# Altium integrated library Linear Technology PMIC-Switching Reg LTC1174-LTC3901.IntLib: 2647 symbols (part 1 of 310)
Pins are listed as number, name and electrical type; pins without a type are passive.

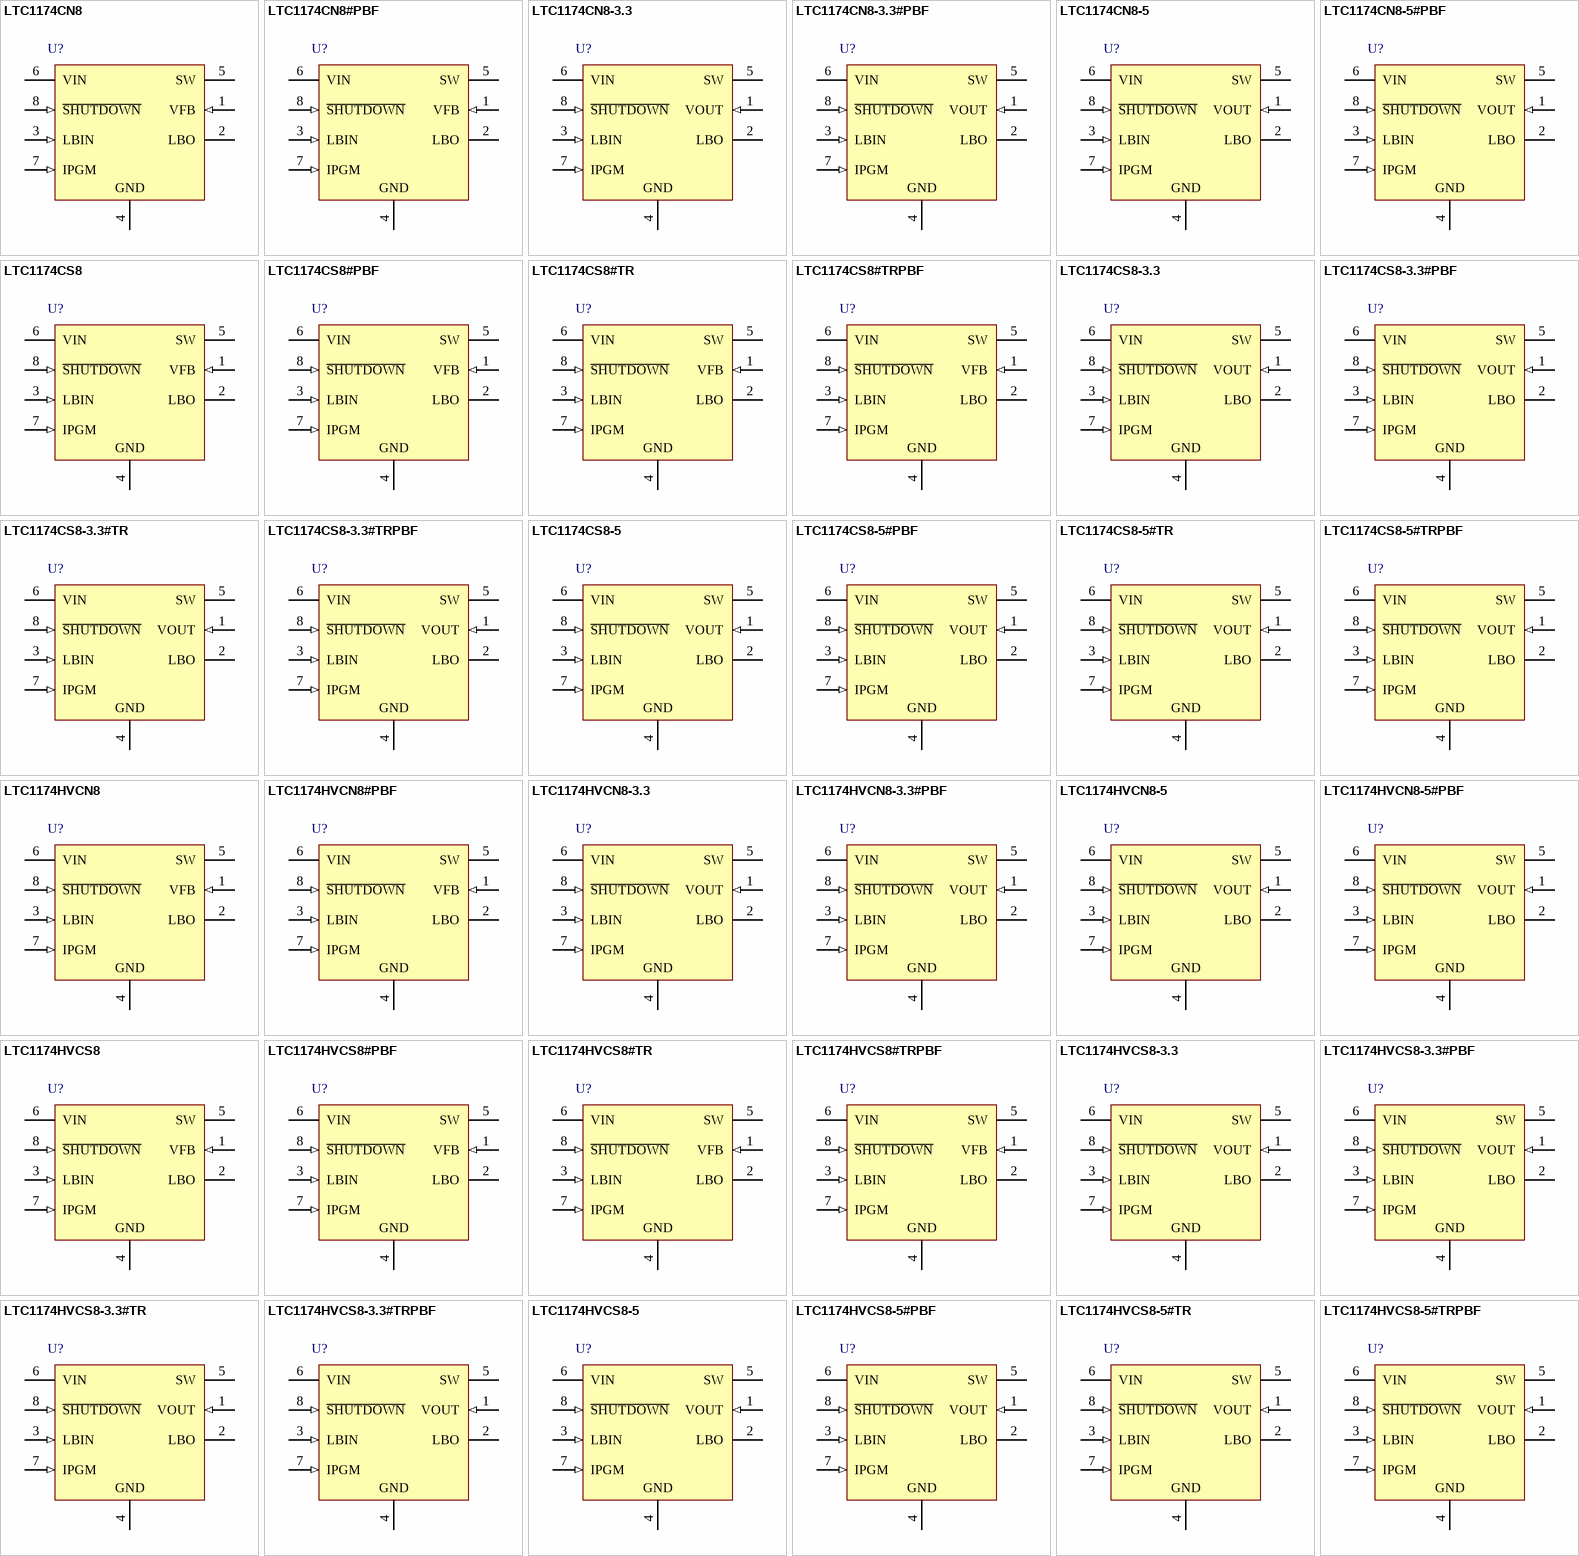
[diagram p0: symbols LTC1174CN8 to LTC1174HVCS8-5#TRPBF]

## LTC1174CN8
designator U?
High Efficiency Step-Down and Inverting DC/DC Converter, 8-pin DIP (N8-8), 0 to 70 degC; Manufacturer: Linear Technology; PartNumber: LTC1174CN8; Number of Outputs: 1; PackageReference: N8-8; PackageDescription: 8-Pin PDIP, Body 10.16 x 6.48 mm, Pitch 2.54 mm; Supplier 1: Digi-Key; Supplier Part Number 1: LTC1174CN8-ND; RoHS: FALSE
footprint LT-N8-8 (DIP, 8-Leads, Body 10.15x6.85mm, Pitch 2.54mm)
pins: 1 VFB (in) "For the LTC1174, this pin connects to the main voltage comparator's input.", 2 LBO (oc) "Open Drain of an N-Channel Pull-Down. This pin will sink current when Pin 3 (LBIN) goes below 1.25V. During shutdown the state of this pin is indeterminate.", 3 LBIN (in) "The ??Input of the Low-Battery Voltage Comparator. The ??input is connected to a reference voltage of 1.25V.", 4 GND (power) "Ground Pin.", 5 SW (power) "Drain of the P-Channel MOSFET Switch. Cathode of Schottky diode must be closely connected to this pin.", 6 VIN (power) "Input Supply Voltage. It must be decoupled close to ground Pin 4.", 7 IPGM (in) "Selects the Current Limit of the P-Channel Switch. With IPGM = VIN, the current trip point is 600mA and with IPGM = 0V, the current trip value is reduced to 340mA.", 8 ~{SHUTDOWN} (in) "Pulling this pin to ground keeps the internal switch off and puts the LTC1174 in micropower shutdown."

## LTC1174CN8#PBF
designator U?
High Efficiency Step-Down and Inverting DC/DC Converter, 8-pin DIP (N8-8), 0 to 70 degC, Pb-Free; Manufacturer: Linear Technology; PartNumber: LTC1174CN8#PBF; Number of Outputs: 1; PackageReference: N8-8; PackageDescription: 8-Pin PDIP, Body 10.16 x 6.48 mm, Pitch 2.54 mm; Supplier 1: Digi-Key; Supplier Part Number 1: LTC1174CN8#PBF-ND; RoHS: TRUE
footprint LT-N8-8 (DIP, 8-Leads, Body 10.15x6.85mm, Pitch 2.54mm)
pins: 1 VFB (in) "For the LTC1174, this pin connects to the main voltage comparator's input.", 2 LBO (oc) "Open Drain of an N-Channel Pull-Down. This pin will sink current when Pin 3 (LBIN) goes below 1.25V. During shutdown the state of this pin is indeterminate.", 3 LBIN (in) "The ??Input of the Low-Battery Voltage Comparator. The ??input is connected to a reference voltage of 1.25V.", 4 GND (power) "Ground Pin.", 5 SW (power) "Drain of the P-Channel MOSFET Switch. Cathode of Schottky diode must be closely connected to this pin.", 6 VIN (power) "Input Supply Voltage. It must be decoupled close to ground Pin 4.", 7 IPGM (in) "Selects the Current Limit of the P-Channel Switch. With IPGM = VIN, the current trip point is 600mA and with IPGM = 0V, the current trip value is reduced to 340mA.", 8 ~{SHUTDOWN} (in) "Pulling this pin to ground keeps the internal switch off and puts the LTC1174 in micropower shutdown."

## LTC1174CN8-3.3
designator U?
High Efficiency Step-Down and Inverting DC/DC Converter, 8-pin DIP (N8-8), 0 to 70 degC; Manufacturer: Linear Technology; PartNumber: LTC1174CN8-3.3; Number of Outputs: 1; PackageReference: N8-8; PackageDescription: 8-Pin PDIP, Body 10.16 x 6.48 mm, Pitch 2.54 mm; Supplier 1: Digi-Key; Supplier Part Number 1: LTC1174CN8-3.3-ND; RoHS: FALSE
footprint LT-N8-8 (DIP, 8-Leads, Body 10.15x6.85mm, Pitch 2.54mm)
pins: 1 VOUT (in) "For the LTC1174, this pin connects to the main voltage comparator's input. On the LTC1174-3.3 and LTC1174-5 this pin goes to an internal resistive divider which sets the output voltage.", 2 LBO (oc) "Open Drain of an N-Channel Pull-Down. This pin will sink current when Pin 3 (LBIN) goes below 1.25V. During shutdown the state of this pin is indeterminate.", 3 LBIN (in) "The ??Input of the Low-Battery Voltage Comparator. The ??input is connected to a reference voltage of 1.25V.", 4 GND (power) "Ground Pin.", 5 SW (power) "Drain of the P-Channel MOSFET Switch. Cathode of Schottky diode must be closely connected to this pin", 6 VIN (power) "Input Supply Voltage. It must be decoupled close to ground Pin 4.", 7 IPGM (in) "Selects the Current Limit of the P-Channel Switch. With IPGM = VIN, the current trip point is 600mA and with IPGM = 0V, the current trip value is reduced to 340mA.", 8 ~{SHUTDOWN} (in) "Pulling this pin to ground keeps the internal switch off and puts the LTC1174 in micropower shutdown."

## LTC1174CN8-3.3#PBF
designator U?
High Efficiency Step-Down and Inverting DC/DC Converter, 8-pin DIP (N8-8), 0 to 70 degC, Pb-Free; Manufacturer: Linear Technology; PartNumber: LTC1174CN8-3.3#PBF; Number of Outputs: 1; PackageReference: N8-8; PackageDescription: 8-Pin PDIP, Body 10.16 x 6.48 mm, Pitch 2.54 mm; Supplier 1: Digi-Key; Supplier Part Number 1: LTC1174CN8-3.3#PBF-ND; RoHS: TRUE
footprint LT-N8-8 (DIP, 8-Leads, Body 10.15x6.85mm, Pitch 2.54mm)
pins: 1 VOUT (in) "For the LTC1174, this pin connects to the main voltage comparator's input. On the LTC1174-3.3 and LTC1174-5 this pin goes to an internal resistive divider which sets the output voltage.", 2 LBO (oc) "Open Drain of an N-Channel Pull-Down. This pin will sink current when Pin 3 (LBIN) goes below 1.25V. During shutdown the state of this pin is indeterminate.", 3 LBIN (in) "The ??Input of the Low-Battery Voltage Comparator. The ??input is connected to a reference voltage of 1.25V.", 4 GND (power) "Ground Pin.", 5 SW (power) "Drain of the P-Channel MOSFET Switch. Cathode of Schottky diode must be closely connected to this pin", 6 VIN (power) "Input Supply Voltage. It must be decoupled close to ground Pin 4.", 7 IPGM (in) "Selects the Current Limit of the P-Channel Switch. With IPGM = VIN, the current trip point is 600mA and with IPGM = 0V, the current trip value is reduced to 340mA.", 8 ~{SHUTDOWN} (in) "Pulling this pin to ground keeps the internal switch off and puts the LTC1174 in micropower shutdown."

## LTC1174CN8-5
designator U?
High Efficiency Step-Down and Inverting DC/DC Converter, 8-pin DIP (N8-8), 0 to 70 degC; Manufacturer: Linear Technology; PartNumber: LTC1174CN8-5; Number of Outputs: 1; PackageReference: N8-8; PackageDescription: 8-Pin PDIP, Body 10.16 x 6.48 mm, Pitch 2.54 mm; Supplier 1: Digi-Key; Supplier Part Number 1: LTC1174CN8-5-ND; RoHS: FALSE
footprint LT-N8-8 (DIP, 8-Leads, Body 10.15x6.85mm, Pitch 2.54mm)
pins: 1 VOUT (in) "For the LTC1174, this pin connects to the main voltage comparator's input. On the LTC1174-3.3 and LTC1174-5 this pin goes to an internal resistive divider which sets the output voltage.", 2 LBO (oc) "Open Drain of an N-Channel Pull-Down. This pin will sink current when Pin 3 (LBIN) goes below 1.25V. During shutdown the state of this pin is indeterminate.", 3 LBIN (in) "The ??Input of the Low-Battery Voltage Comparator. The ??input is connected to a reference voltage of 1.25V.", 4 GND (power) "Ground Pin.", 5 SW (power) "Drain of the P-Channel MOSFET Switch. Cathode of Schottky diode must be closely connected to this pin", 6 VIN (power) "Input Supply Voltage. It must be decoupled close to ground Pin 4.", 7 IPGM (in) "Selects the Current Limit of the P-Channel Switch. With IPGM = VIN, the current trip point is 600mA and with IPGM = 0V, the current trip value is reduced to 340mA.", 8 ~{SHUTDOWN} (in) "Pulling this pin to ground keeps the internal switch off and puts the LTC1174 in micropower shutdown."

## LTC1174CN8-5#PBF
designator U?
High Efficiency Step-Down and Inverting DC/DC Converter, 8-pin DIP (N8-8), 0 to 70 degC, Pb-Free; Manufacturer: Linear Technology; PartNumber: LTC1174CN8-5#PBF; Number of Outputs: 1; PackageReference: N8-8; PackageDescription: 8-Pin PDIP, Body 10.16 x 6.48 mm, Pitch 2.54 mm; Supplier 1: Digi-Key; Supplier Part Number 1: LTC1174CN8-5#PBF-ND; RoHS: TRUE
footprint LT-N8-8 (DIP, 8-Leads, Body 10.15x6.85mm, Pitch 2.54mm)
pins: 1 VOUT (in) "For the LTC1174, this pin connects to the main voltage comparator's input. On the LTC1174-3.3 and LTC1174-5 this pin goes to an internal resistive divider which sets the output voltage.", 2 LBO (oc) "Open Drain of an N-Channel Pull-Down. This pin will sink current when Pin 3 (LBIN) goes below 1.25V. During shutdown the state of this pin is indeterminate.", 3 LBIN (in) "The ??Input of the Low-Battery Voltage Comparator. The ??input is connected to a reference voltage of 1.25V.", 4 GND (power) "Ground Pin.", 5 SW (power) "Drain of the P-Channel MOSFET Switch. Cathode of Schottky diode must be closely connected to this pin", 6 VIN (power) "Input Supply Voltage. It must be decoupled close to ground Pin 4.", 7 IPGM (in) "Selects the Current Limit of the P-Channel Switch. With IPGM = VIN, the current trip point is 600mA and with IPGM = 0V, the current trip value is reduced to 340mA.", 8 ~{SHUTDOWN} (in) "Pulling this pin to ground keeps the internal switch off and puts the LTC1174 in micropower shutdown."

## LTC1174CS8
designator U?
High Efficiency Step-Down and Inverting DC/DC Converter, 8-pin SOIC (S8-8), 0 to 70 degC; Manufacturer: Linear Technology; PartNumber: LTC1174CS8; Number of Outputs: 1; PackageReference: S8-8; PackageDescription: 8-Pin Plastic Small Outline (Narrow .150 Inch), Body 4.9 x 3.9 mm, Pitch 1.27 mm; Supplier 1: Digi-Key; Supplier Part Number 1: LTC1174CS8-ND; RoHS: FALSE
footprint LT-S8-8_N (SOIC, 8-Leads, Body 5x4mm, Pitch 1.27mm, IPC Medium Density)
footprint LT-S8-8_L (SOIC, 8-Leads, Body 5x4mm, Pitch 1.27mm, IPC High Density)
footprint LT-S8-8_M (SOIC, 8-Leads, Body 5x4mm, Pitch 1.27mm, IPC Low Density)
pins: 1 VFB (in) "For the LTC1174, this pin connects to the main voltage comparator's input.", 2 LBO (oc) "Open Drain of an N-Channel Pull-Down. This pin will sink current when Pin 3 (LBIN) goes below 1.25V. During shutdown the state of this pin is indeterminate.", 3 LBIN (in) "The ??Input of the Low-Battery Voltage Comparator. The ??input is connected to a reference voltage of 1.25V.", 4 GND (power) "Ground Pin.", 5 SW (power) "Drain of the P-Channel MOSFET Switch. Cathode of Schottky diode must be closely connected to this pin.", 6 VIN (power) "Input Supply Voltage. It must be decoupled close to ground Pin 4.", 7 IPGM (in) "Selects the Current Limit of the P-Channel Switch. With IPGM = VIN, the current trip point is 600mA and with IPGM = 0V, the current trip value is reduced to 340mA.", 8 ~{SHUTDOWN} (in) "Pulling this pin to ground keeps the internal switch off and puts the LTC1174 in micropower shutdown."

## LTC1174CS8#PBF
designator U?
High Efficiency Step-Down and Inverting DC/DC Converter, 8-pin SOIC (S8-8), 0 to 70 degC, Pb-Free; Manufacturer: Linear Technology; PartNumber: LTC1174CS8#PBF; Number of Outputs: 1; PackageReference: S8-8; PackageDescription: 8-Pin Plastic Small Outline (Narrow .150 Inch), Body 4.9 x 3.9 mm, Pitch 1.27 mm; Supplier 1: Digi-Key; Supplier Part Number 1: LTC1174CS8#PBF-ND; RoHS: TRUE
footprint LT-S8-8_N (SOIC, 8-Leads, Body 5x4mm, Pitch 1.27mm, IPC Medium Density)
footprint LT-S8-8_L (SOIC, 8-Leads, Body 5x4mm, Pitch 1.27mm, IPC High Density)
footprint LT-S8-8_M (SOIC, 8-Leads, Body 5x4mm, Pitch 1.27mm, IPC Low Density)
pins: 1 VFB (in) "For the LTC1174, this pin connects to the main voltage comparator's input.", 2 LBO (oc) "Open Drain of an N-Channel Pull-Down. This pin will sink current when Pin 3 (LBIN) goes below 1.25V. During shutdown the state of this pin is indeterminate.", 3 LBIN (in) "The ??Input of the Low-Battery Voltage Comparator. The ??input is connected to a reference voltage of 1.25V.", 4 GND (power) "Ground Pin.", 5 SW (power) "Drain of the P-Channel MOSFET Switch. Cathode of Schottky diode must be closely connected to this pin.", 6 VIN (power) "Input Supply Voltage. It must be decoupled close to ground Pin 4.", 7 IPGM (in) "Selects the Current Limit of the P-Channel Switch. With IPGM = VIN, the current trip point is 600mA and with IPGM = 0V, the current trip value is reduced to 340mA.", 8 ~{SHUTDOWN} (in) "Pulling this pin to ground keeps the internal switch off and puts the LTC1174 in micropower shutdown."

## LTC1174CS8#TR
designator U?
High Efficiency Step-Down and Inverting DC/DC Converter, 8-pin SOIC (S8-8), 0 to 70 degC, Tape and Reel; Manufacturer: Linear Technology; PartNumber: LTC1174CS8#TR; Number of Outputs: 1; PackageReference: S8-8; PackageDescription: 8-Pin Plastic Small Outline (Narrow .150 Inch), Body 4.9 x 3.9 mm, Pitch 1.27 mm; Supplier 1: Digi-Key; Supplier Part Number 1: LTC1174CS8#TR-ND; RoHS: FALSE
footprint LT-S8-8_N (SOIC, 8-Leads, Body 5x4mm, Pitch 1.27mm, IPC Medium Density)
footprint LT-S8-8_L (SOIC, 8-Leads, Body 5x4mm, Pitch 1.27mm, IPC High Density)
footprint LT-S8-8_M (SOIC, 8-Leads, Body 5x4mm, Pitch 1.27mm, IPC Low Density)
pins: 1 VFB (in) "For the LTC1174, this pin connects to the main voltage comparator's input.", 2 LBO (oc) "Open Drain of an N-Channel Pull-Down. This pin will sink current when Pin 3 (LBIN) goes below 1.25V. During shutdown the state of this pin is indeterminate.", 3 LBIN (in) "The ??Input of the Low-Battery Voltage Comparator. The ??input is connected to a reference voltage of 1.25V.", 4 GND (power) "Ground Pin.", 5 SW (power) "Drain of the P-Channel MOSFET Switch. Cathode of Schottky diode must be closely connected to this pin.", 6 VIN (power) "Input Supply Voltage. It must be decoupled close to ground Pin 4.", 7 IPGM (in) "Selects the Current Limit of the P-Channel Switch. With IPGM = VIN, the current trip point is 600mA and with IPGM = 0V, the current trip value is reduced to 340mA.", 8 ~{SHUTDOWN} (in) "Pulling this pin to ground keeps the internal switch off and puts the LTC1174 in micropower shutdown."

## LTC1174CS8#TRPBF
designator U?
High Efficiency Step-Down and Inverting DC/DC Converter, 8-pin SOIC (S8-8), 0 to 70 degC, Pb-Free, Tape and Reel; Manufacturer: Linear Technology; PartNumber: LTC1174CS8#TRPBF; Number of Outputs: 1; PackageReference: S8-8; PackageDescription: 8-Pin Plastic Small Outline (Narrow .150 Inch), Body 4.9 x 3.9 mm, Pitch 1.27 mm; Supplier 1: Digi-Key; Supplier Part Number 1: LTC1174CS8#TRPBF-ND; RoHS: TRUE
footprint LT-S8-8_N (SOIC, 8-Leads, Body 5x4mm, Pitch 1.27mm, IPC Medium Density)
footprint LT-S8-8_L (SOIC, 8-Leads, Body 5x4mm, Pitch 1.27mm, IPC High Density)
footprint LT-S8-8_M (SOIC, 8-Leads, Body 5x4mm, Pitch 1.27mm, IPC Low Density)
pins: 1 VFB (in) "For the LTC1174, this pin connects to the main voltage comparator's input.", 2 LBO (oc) "Open Drain of an N-Channel Pull-Down. This pin will sink current when Pin 3 (LBIN) goes below 1.25V. During shutdown the state of this pin is indeterminate.", 3 LBIN (in) "The ??Input of the Low-Battery Voltage Comparator. The ??input is connected to a reference voltage of 1.25V.", 4 GND (power) "Ground Pin.", 5 SW (power) "Drain of the P-Channel MOSFET Switch. Cathode of Schottky diode must be closely connected to this pin.", 6 VIN (power) "Input Supply Voltage. It must be decoupled close to ground Pin 4.", 7 IPGM (in) "Selects the Current Limit of the P-Channel Switch. With IPGM = VIN, the current trip point is 600mA and with IPGM = 0V, the current trip value is reduced to 340mA.", 8 ~{SHUTDOWN} (in) "Pulling this pin to ground keeps the internal switch off and puts the LTC1174 in micropower shutdown."

## LTC1174CS8-3.3
designator U?
High Efficiency Step-Down and Inverting DC/DC Converter, 8-pin SOIC (S8-8), 0 to 70 degC; Manufacturer: Linear Technology; PartNumber: LTC1174CS8-3.3; Number of Outputs: 1; PackageReference: S8-8; PackageDescription: 8-Pin Plastic Small Outline (Narrow .150 Inch), Body 4.9 x 3.9 mm, Pitch 1.27 mm; Supplier 1: Digi-Key; Supplier Part Number 1: LTC1174CS8-3.3-ND; RoHS: FALSE
footprint LT-S8-8_N (SOIC, 8-Leads, Body 5x4mm, Pitch 1.27mm, IPC Medium Density)
footprint LT-S8-8_L (SOIC, 8-Leads, Body 5x4mm, Pitch 1.27mm, IPC High Density)
footprint LT-S8-8_M (SOIC, 8-Leads, Body 5x4mm, Pitch 1.27mm, IPC Low Density)
pins: 1 VOUT (in) "For the LTC1174, this pin connects to the main voltage comparator's input. On the LTC1174-3.3 and LTC1174-5 this pin goes to an internal resistive divider which sets the output voltage.", 2 LBO (oc) "Open Drain of an N-Channel Pull-Down. This pin will sink current when Pin 3 (LBIN) goes below 1.25V. During shutdown the state of this pin is indeterminate.", 3 LBIN (in) "The ??Input of the Low-Battery Voltage Comparator. The ??input is connected to a reference voltage of 1.25V.", 4 GND (power) "Ground Pin.", 5 SW (power) "Drain of the P-Channel MOSFET Switch. Cathode of Schottky diode must be closely connected to this pin", 6 VIN (power) "Input Supply Voltage. It must be decoupled close to ground Pin 4.", 7 IPGM (in) "Selects the Current Limit of the P-Channel Switch. With IPGM = VIN, the current trip point is 600mA and with IPGM = 0V, the current trip value is reduced to 340mA.", 8 ~{SHUTDOWN} (in) "Pulling this pin to ground keeps the internal switch off and puts the LTC1174 in micropower shutdown."

## LTC1174CS8-3.3#PBF
designator U?
High Efficiency Step-Down and Inverting DC/DC Converter, 8-pin SOIC (S8-8), 0 to 70 degC, Pb-Free; Manufacturer: Linear Technology; PartNumber: LTC1174CS8-3.3#PBF; Number of Outputs: 1; PackageReference: S8-8; PackageDescription: 8-Pin Plastic Small Outline (Narrow .150 Inch), Body 4.9 x 3.9 mm, Pitch 1.27 mm; Supplier 1: Digi-Key; Supplier Part Number 1: LTC1174CS8-3.3#PBF-ND; RoHS: TRUE
footprint LT-S8-8_N (SOIC, 8-Leads, Body 5x4mm, Pitch 1.27mm, IPC Medium Density)
footprint LT-S8-8_L (SOIC, 8-Leads, Body 5x4mm, Pitch 1.27mm, IPC High Density)
footprint LT-S8-8_M (SOIC, 8-Leads, Body 5x4mm, Pitch 1.27mm, IPC Low Density)
pins: 1 VOUT (in) "For the LTC1174, this pin connects to the main voltage comparator's input. On the LTC1174-3.3 and LTC1174-5 this pin goes to an internal resistive divider which sets the output voltage.", 2 LBO (oc) "Open Drain of an N-Channel Pull-Down. This pin will sink current when Pin 3 (LBIN) goes below 1.25V. During shutdown the state of this pin is indeterminate.", 3 LBIN (in) "The ??Input of the Low-Battery Voltage Comparator. The ??input is connected to a reference voltage of 1.25V.", 4 GND (power) "Ground Pin.", 5 SW (power) "Drain of the P-Channel MOSFET Switch. Cathode of Schottky diode must be closely connected to this pin", 6 VIN (power) "Input Supply Voltage. It must be decoupled close to ground Pin 4.", 7 IPGM (in) "Selects the Current Limit of the P-Channel Switch. With IPGM = VIN, the current trip point is 600mA and with IPGM = 0V, the current trip value is reduced to 340mA.", 8 ~{SHUTDOWN} (in) "Pulling this pin to ground keeps the internal switch off and puts the LTC1174 in micropower shutdown."

## LTC1174CS8-3.3#TR
designator U?
High Efficiency Step-Down and Inverting DC/DC Converter, 8-pin SOIC (S8-8), 0 to 70 degC, Tape and Reel; Manufacturer: Linear Technology; PartNumber: LTC1174CS8-3.3#TR; Number of Outputs: 1; PackageReference: S8-8; PackageDescription: 8-Pin Plastic Small Outline (Narrow .150 Inch), Body 4.9 x 3.9 mm, Pitch 1.27 mm; Supplier 1: Digi-Key; Supplier Part Number 1: LTC1174CS8-3.3#TR-ND; RoHS: FALSE
footprint LT-S8-8_N (SOIC, 8-Leads, Body 5x4mm, Pitch 1.27mm, IPC Medium Density)
footprint LT-S8-8_L (SOIC, 8-Leads, Body 5x4mm, Pitch 1.27mm, IPC High Density)
footprint LT-S8-8_M (SOIC, 8-Leads, Body 5x4mm, Pitch 1.27mm, IPC Low Density)
pins: 1 VOUT (in) "For the LTC1174, this pin connects to the main voltage comparator's input. On the LTC1174-3.3 and LTC1174-5 this pin goes to an internal resistive divider which sets the output voltage.", 2 LBO (oc) "Open Drain of an N-Channel Pull-Down. This pin will sink current when Pin 3 (LBIN) goes below 1.25V. During shutdown the state of this pin is indeterminate.", 3 LBIN (in) "The ??Input of the Low-Battery Voltage Comparator. The ??input is connected to a reference voltage of 1.25V.", 4 GND (power) "Ground Pin.", 5 SW (power) "Drain of the P-Channel MOSFET Switch. Cathode of Schottky diode must be closely connected to this pin", 6 VIN (power) "Input Supply Voltage. It must be decoupled close to ground Pin 4.", 7 IPGM (in) "Selects the Current Limit of the P-Channel Switch. With IPGM = VIN, the current trip point is 600mA and with IPGM = 0V, the current trip value is reduced to 340mA.", 8 ~{SHUTDOWN} (in) "Pulling this pin to ground keeps the internal switch off and puts the LTC1174 in micropower shutdown."

## LTC1174CS8-3.3#TRPBF
designator U?
High Efficiency Step-Down and Inverting DC/DC Converter, 8-pin SOIC (S8-8), 0 to 70 degC, Pb-Free, Tape and Reel; Manufacturer: Linear Technology; PartNumber: LTC1174CS8-3.3#TRPBF; Number of Outputs: 1; PackageReference: S8-8; PackageDescription: 8-Pin Plastic Small Outline (Narrow .150 Inch), Body 4.9 x 3.9 mm, Pitch 1.27 mm; Supplier 1: Digi-Key; Supplier Part Number 1: LTC1174CS8-3.3#TRPBF-ND; RoHS: TRUE
footprint LT-S8-8_N (SOIC, 8-Leads, Body 5x4mm, Pitch 1.27mm, IPC Medium Density)
footprint LT-S8-8_L (SOIC, 8-Leads, Body 5x4mm, Pitch 1.27mm, IPC High Density)
footprint LT-S8-8_M (SOIC, 8-Leads, Body 5x4mm, Pitch 1.27mm, IPC Low Density)
pins: 1 VOUT (in) "For the LTC1174, this pin connects to the main voltage comparator's input. On the LTC1174-3.3 and LTC1174-5 this pin goes to an internal resistive divider which sets the output voltage.", 2 LBO (oc) "Open Drain of an N-Channel Pull-Down. This pin will sink current when Pin 3 (LBIN) goes below 1.25V. During shutdown the state of this pin is indeterminate.", 3 LBIN (in) "The ??Input of the Low-Battery Voltage Comparator. The ??input is connected to a reference voltage of 1.25V.", 4 GND (power) "Ground Pin.", 5 SW (power) "Drain of the P-Channel MOSFET Switch. Cathode of Schottky diode must be closely connected to this pin", 6 VIN (power) "Input Supply Voltage. It must be decoupled close to ground Pin 4.", 7 IPGM (in) "Selects the Current Limit of the P-Channel Switch. With IPGM = VIN, the current trip point is 600mA and with IPGM = 0V, the current trip value is reduced to 340mA.", 8 ~{SHUTDOWN} (in) "Pulling this pin to ground keeps the internal switch off and puts the LTC1174 in micropower shutdown."

## LTC1174CS8-5
designator U?
High Efficiency Step-Down and Inverting DC/DC Converter, 8-pin SOIC (S8-8), 0 to 70 degC; Manufacturer: Linear Technology; PartNumber: LTC1174CS8-5; Number of Outputs: 1; PackageReference: S8-8; PackageDescription: 8-Pin Plastic Small Outline (Narrow .150 Inch), Body 4.9 x 3.9 mm, Pitch 1.27 mm; Supplier 1: Digi-Key; Supplier Part Number 1: LTC1174CS8-5-ND; RoHS: FALSE
footprint LT-S8-8_N (SOIC, 8-Leads, Body 5x4mm, Pitch 1.27mm, IPC Medium Density)
footprint LT-S8-8_L (SOIC, 8-Leads, Body 5x4mm, Pitch 1.27mm, IPC High Density)
footprint LT-S8-8_M (SOIC, 8-Leads, Body 5x4mm, Pitch 1.27mm, IPC Low Density)
pins: 1 VOUT (in) "For the LTC1174, this pin connects to the main voltage comparator's input. On the LTC1174-3.3 and LTC1174-5 this pin goes to an internal resistive divider which sets the output voltage.", 2 LBO (oc) "Open Drain of an N-Channel Pull-Down. This pin will sink current when Pin 3 (LBIN) goes below 1.25V. During shutdown the state of this pin is indeterminate.", 3 LBIN (in) "The ??Input of the Low-Battery Voltage Comparator. The ??input is connected to a reference voltage of 1.25V.", 4 GND (power) "Ground Pin.", 5 SW (power) "Drain of the P-Channel MOSFET Switch. Cathode of Schottky diode must be closely connected to this pin", 6 VIN (power) "Input Supply Voltage. It must be decoupled close to ground Pin 4.", 7 IPGM (in) "Selects the Current Limit of the P-Channel Switch. With IPGM = VIN, the current trip point is 600mA and with IPGM = 0V, the current trip value is reduced to 340mA.", 8 ~{SHUTDOWN} (in) "Pulling this pin to ground keeps the internal switch off and puts the LTC1174 in micropower shutdown."

## LTC1174CS8-5#PBF
designator U?
High Efficiency Step-Down and Inverting DC/DC Converter, 8-pin SOIC (S8-8), 0 to 70 degC, Pb-Free; Manufacturer: Linear Technology; PartNumber: LTC1174CS8-5#PBF; Number of Outputs: 1; PackageReference: S8-8; PackageDescription: 8-Pin Plastic Small Outline (Narrow .150 Inch), Body 4.9 x 3.9 mm, Pitch 1.27 mm; Supplier 1: Digi-Key; Supplier Part Number 1: LTC1174CS8-5#PBF-ND; RoHS: TRUE
footprint LT-S8-8_N (SOIC, 8-Leads, Body 5x4mm, Pitch 1.27mm, IPC Medium Density)
footprint LT-S8-8_L (SOIC, 8-Leads, Body 5x4mm, Pitch 1.27mm, IPC High Density)
footprint LT-S8-8_M (SOIC, 8-Leads, Body 5x4mm, Pitch 1.27mm, IPC Low Density)
pins: 1 VOUT (in) "For the LTC1174, this pin connects to the main voltage comparator's input. On the LTC1174-3.3 and LTC1174-5 this pin goes to an internal resistive divider which sets the output voltage.", 2 LBO (oc) "Open Drain of an N-Channel Pull-Down. This pin will sink current when Pin 3 (LBIN) goes below 1.25V. During shutdown the state of this pin is indeterminate.", 3 LBIN (in) "The ??Input of the Low-Battery Voltage Comparator. The ??input is connected to a reference voltage of 1.25V.", 4 GND (power) "Ground Pin.", 5 SW (power) "Drain of the P-Channel MOSFET Switch. Cathode of Schottky diode must be closely connected to this pin", 6 VIN (power) "Input Supply Voltage. It must be decoupled close to ground Pin 4.", 7 IPGM (in) "Selects the Current Limit of the P-Channel Switch. With IPGM = VIN, the current trip point is 600mA and with IPGM = 0V, the current trip value is reduced to 340mA.", 8 ~{SHUTDOWN} (in) "Pulling this pin to ground keeps the internal switch off and puts the LTC1174 in micropower shutdown."

## LTC1174CS8-5#TR
designator U?
High Efficiency Step-Down and Inverting DC/DC Converter, 8-pin SOIC (S8-8), 0 to 70 degC, Tape and Reel; Manufacturer: Linear Technology; PartNumber: LTC1174CS8-5#TR; Number of Outputs: 1; PackageReference: S8-8; PackageDescription: 8-Pin Plastic Small Outline (Narrow .150 Inch), Body 4.9 x 3.9 mm, Pitch 1.27 mm; Supplier 1: Digi-Key; Supplier Part Number 1: LTC1174CS8-5#TR-ND; RoHS: FALSE
footprint LT-S8-8_N (SOIC, 8-Leads, Body 5x4mm, Pitch 1.27mm, IPC Medium Density)
footprint LT-S8-8_L (SOIC, 8-Leads, Body 5x4mm, Pitch 1.27mm, IPC High Density)
footprint LT-S8-8_M (SOIC, 8-Leads, Body 5x4mm, Pitch 1.27mm, IPC Low Density)
pins: 1 VOUT (in) "For the LTC1174, this pin connects to the main voltage comparator's input. On the LTC1174-3.3 and LTC1174-5 this pin goes to an internal resistive divider which sets the output voltage.", 2 LBO (oc) "Open Drain of an N-Channel Pull-Down. This pin will sink current when Pin 3 (LBIN) goes below 1.25V. During shutdown the state of this pin is indeterminate.", 3 LBIN (in) "The ??Input of the Low-Battery Voltage Comparator. The ??input is connected to a reference voltage of 1.25V.", 4 GND (power) "Ground Pin.", 5 SW (power) "Drain of the P-Channel MOSFET Switch. Cathode of Schottky diode must be closely connected to this pin", 6 VIN (power) "Input Supply Voltage. It must be decoupled close to ground Pin 4.", 7 IPGM (in) "Selects the Current Limit of the P-Channel Switch. With IPGM = VIN, the current trip point is 600mA and with IPGM = 0V, the current trip value is reduced to 340mA.", 8 ~{SHUTDOWN} (in) "Pulling this pin to ground keeps the internal switch off and puts the LTC1174 in micropower shutdown."

## LTC1174CS8-5#TRPBF
designator U?
High Efficiency Step-Down and Inverting DC/DC Converter, 8-pin SOIC (S8-8), 0 to 70 degC, Pb-Free, Tape and Reel; Manufacturer: Linear Technology; PartNumber: LTC1174CS8-5#TRPBF; Number of Outputs: 1; PackageReference: S8-8; PackageDescription: 8-Pin Plastic Small Outline (Narrow .150 Inch), Body 4.9 x 3.9 mm, Pitch 1.27 mm; Supplier 1: Digi-Key; Supplier Part Number 1: LTC1174CS8-5#TRPBF-ND; RoHS: TRUE
footprint LT-S8-8_N (SOIC, 8-Leads, Body 5x4mm, Pitch 1.27mm, IPC Medium Density)
footprint LT-S8-8_L (SOIC, 8-Leads, Body 5x4mm, Pitch 1.27mm, IPC High Density)
footprint LT-S8-8_M (SOIC, 8-Leads, Body 5x4mm, Pitch 1.27mm, IPC Low Density)
pins: 1 VOUT (in) "For the LTC1174, this pin connects to the main voltage comparator's input. On the LTC1174-3.3 and LTC1174-5 this pin goes to an internal resistive divider which sets the output voltage.", 2 LBO (oc) "Open Drain of an N-Channel Pull-Down. This pin will sink current when Pin 3 (LBIN) goes below 1.25V. During shutdown the state of this pin is indeterminate.", 3 LBIN (in) "The ??Input of the Low-Battery Voltage Comparator. The ??input is connected to a reference voltage of 1.25V.", 4 GND (power) "Ground Pin.", 5 SW (power) "Drain of the P-Channel MOSFET Switch. Cathode of Schottky diode must be closely connected to this pin", 6 VIN (power) "Input Supply Voltage. It must be decoupled close to ground Pin 4.", 7 IPGM (in) "Selects the Current Limit of the P-Channel Switch. With IPGM = VIN, the current trip point is 600mA and with IPGM = 0V, the current trip value is reduced to 340mA.", 8 ~{SHUTDOWN} (in) "Pulling this pin to ground keeps the internal switch off and puts the LTC1174 in micropower shutdown."

## LTC1174HVCN8
designator U?
High Efficiency Step-Down and Inverting DC/DC Converter, 8-pin DIP (N8-8), 0 to 70 degC; Manufacturer: Linear Technology; PartNumber: LTC1174HVCN8; Number of Outputs: 1; PackageReference: N8-8; PackageDescription: 8-Pin PDIP, Body 10.16 x 6.48 mm, Pitch 2.54 mm; Supplier 1: Digi-Key; Supplier Part Number 1: LTC1174HVCN8-ND; RoHS: FALSE
footprint LT-N8-8 (DIP, 8-Leads, Body 10.15x6.85mm, Pitch 2.54mm)
pins: 1 VFB (in) "For the LTC1174, this pin connects to the main voltage comparator's input.", 2 LBO (oc) "Open Drain of an N-Channel Pull-Down. This pin will sink current when Pin 3 (LBIN) goes below 1.25V. During shutdown the state of this pin is indeterminate.", 3 LBIN (in) "The ??Input of the Low-Battery Voltage Comparator. The ??input is connected to a reference voltage of 1.25V.", 4 GND (power) "Ground Pin.", 5 SW (power) "Drain of the P-Channel MOSFET Switch. Cathode of Schottky diode must be closely connected to this pin.", 6 VIN (power) "Input Supply Voltage. It must be decoupled close to ground Pin 4.", 7 IPGM (in) "Selects the Current Limit of the P-Channel Switch. With IPGM = VIN, the current trip point is 600mA and with IPGM = 0V, the current trip value is reduced to 340mA.", 8 ~{SHUTDOWN} (in) "Pulling this pin to ground keeps the internal switch off and puts the LTC1174 in micropower shutdown."

## LTC1174HVCN8#PBF
designator U?
High Efficiency Step-Down and Inverting DC/DC Converter, 8-pin DIP (N8-8), 0 to 70 degC, Pb-Free; Manufacturer: Linear Technology; PartNumber: LTC1174HVCN8#PBF; Number of Outputs: 1; PackageReference: N8-8; PackageDescription: 8-Pin PDIP, Body 10.16 x 6.48 mm, Pitch 2.54 mm; Supplier 1: Digi-Key; Supplier Part Number 1: LTC1174HVCN8#PBF-ND; RoHS: TRUE
footprint LT-N8-8 (DIP, 8-Leads, Body 10.15x6.85mm, Pitch 2.54mm)
pins: 1 VFB (in) "For the LTC1174, this pin connects to the main voltage comparator's input.", 2 LBO (oc) "Open Drain of an N-Channel Pull-Down. This pin will sink current when Pin 3 (LBIN) goes below 1.25V. During shutdown the state of this pin is indeterminate.", 3 LBIN (in) "The ??Input of the Low-Battery Voltage Comparator. The ??input is connected to a reference voltage of 1.25V.", 4 GND (power) "Ground Pin.", 5 SW (power) "Drain of the P-Channel MOSFET Switch. Cathode of Schottky diode must be closely connected to this pin.", 6 VIN (power) "Input Supply Voltage. It must be decoupled close to ground Pin 4.", 7 IPGM (in) "Selects the Current Limit of the P-Channel Switch. With IPGM = VIN, the current trip point is 600mA and with IPGM = 0V, the current trip value is reduced to 340mA.", 8 ~{SHUTDOWN} (in) "Pulling this pin to ground keeps the internal switch off and puts the LTC1174 in micropower shutdown."

## LTC1174HVCN8-3.3
designator U?
High Efficiency Step-Down and Inverting DC/DC Converter, 8-pin DIP (N8-8), 0 to 70 degC; Manufacturer: Linear Technology; PartNumber: LTC1174HVCN8-3.3; Number of Outputs: 1; PackageReference: N8-8; PackageDescription: 8-Pin PDIP, Body 10.16 x 6.48 mm, Pitch 2.54 mm; Supplier 1: Digi-Key; Supplier Part Number 1: LTC1174HVCN8-3.3-ND; RoHS: FALSE
footprint LT-N8-8 (DIP, 8-Leads, Body 10.15x6.85mm, Pitch 2.54mm)
pins: 1 VOUT (in) "On the LTC1174-3.3 and LTC1174-5 this pin goes to an internal resistive divider which sets the output voltage.", 2 LBO (oc) "Open Drain of an N-Channel Pull-Down. This pin will sink current when Pin 3 (LBIN) goes below 1.25V. During shutdown the state of this pin is indeterminate.", 3 LBIN (in) "The ??Input of the Low-Battery Voltage Comparator. The ??input is connected to a reference voltage of 1.25V.", 4 GND (power) "Ground Pin.", 5 SW (power) "Drain of the P-Channel MOSFET Switch. Cathode of Schottky diode must be closely connected to this pin.", 6 VIN (power) "Input Supply Voltage. It must be decoupled close to ground Pin 4.", 7 IPGM (in) "Selects the Current Limit of the P-Channel Switch. With IPGM = VIN, the current trip point is 600mA and with IPGM = 0V, the current trip value is reduced to 340mA.", 8 ~{SHUTDOWN} (in) "Pulling this pin to ground keeps the internal switch off and puts the LTC1174 in micropower shutdown."

## LTC1174HVCN8-3.3#PBF
designator U?
High Efficiency Step-Down and Inverting DC/DC Converter, 8-pin DIP (N8-8), 0 to 70 degC, Pb-Free; Manufacturer: Linear Technology; PartNumber: LTC1174HVCN8-3.3#PBF; Number of Outputs: 1; PackageReference: N8-8; PackageDescription: 8-Pin PDIP, Body 10.16 x 6.48 mm, Pitch 2.54 mm; Supplier 1: Digi-Key; Supplier Part Number 1: LTC1174HVCN8-3.3#PBF-ND; RoHS: TRUE
footprint LT-N8-8 (DIP, 8-Leads, Body 10.15x6.85mm, Pitch 2.54mm)
pins: 1 VOUT (in) "On the LTC1174-3.3 and LTC1174-5 this pin goes to an internal resistive divider which sets the output voltage.", 2 LBO (oc) "Open Drain of an N-Channel Pull-Down. This pin will sink current when Pin 3 (LBIN) goes below 1.25V. During shutdown the state of this pin is indeterminate.", 3 LBIN (in) "The ??Input of the Low-Battery Voltage Comparator. The ??input is connected to a reference voltage of 1.25V.", 4 GND (power) "Ground Pin.", 5 SW (power) "Drain of the P-Channel MOSFET Switch. Cathode of Schottky diode must be closely connected to this pin.", 6 VIN (power) "Input Supply Voltage. It must be decoupled close to ground Pin 4.", 7 IPGM (in) "Selects the Current Limit of the P-Channel Switch. With IPGM = VIN, the current trip point is 600mA and with IPGM = 0V, the current trip value is reduced to 340mA.", 8 ~{SHUTDOWN} (in) "Pulling this pin to ground keeps the internal switch off and puts the LTC1174 in micropower shutdown."

## LTC1174HVCN8-5
designator U?
High Efficiency Step-Down and Inverting DC/DC Converter, 8-pin DIP (N8-8), 0 to 70 degC; Manufacturer: Linear Technology; PartNumber: LTC1174HVCN8-5; Number of Outputs: 1; PackageReference: N8-8; PackageDescription: 8-Pin PDIP, Body 10.16 x 6.48 mm, Pitch 2.54 mm; Supplier 1: Digi-Key; Supplier Part Number 1: LTC1174HVCN8-5-ND; RoHS: FALSE
footprint LT-N8-8 (DIP, 8-Leads, Body 10.15x6.85mm, Pitch 2.54mm)
pins: 1 VOUT (in) "On the LTC1174-3.3 and LTC1174-5 this pin goes to an internal resistive divider which sets the output voltage.", 2 LBO (oc) "Open Drain of an N-Channel Pull-Down. This pin will sink current when Pin 3 (LBIN) goes below 1.25V. During shutdown the state of this pin is indeterminate.", 3 LBIN (in) "The ??Input of the Low-Battery Voltage Comparator. The ??input is connected to a reference voltage of 1.25V.", 4 GND (power) "Ground Pin.", 5 SW (power) "Drain of the P-Channel MOSFET Switch. Cathode of Schottky diode must be closely connected to this pin.", 6 VIN (power) "Input Supply Voltage. It must be decoupled close to ground Pin 4.", 7 IPGM (in) "Selects the Current Limit of the P-Channel Switch. With IPGM = VIN, the current trip point is 600mA and with IPGM = 0V, the current trip value is reduced to 340mA.", 8 ~{SHUTDOWN} (in) "Pulling this pin to ground keeps the internal switch off and puts the LTC1174 in micropower shutdown."

## LTC1174HVCN8-5#PBF
designator U?
High Efficiency Step-Down and Inverting DC/DC Converter, 8-pin DIP (N8-8), 0 to 70 degC, Pb-Free; Manufacturer: Linear Technology; PartNumber: LTC1174HVCN8-5#PBF; Number of Outputs: 1; PackageReference: N8-8; PackageDescription: 8-Pin PDIP, Body 10.16 x 6.48 mm, Pitch 2.54 mm; Supplier 1: Digi-Key; Supplier Part Number 1: LTC1174HVCN8-5#PBF-ND; RoHS: TRUE
footprint LT-N8-8 (DIP, 8-Leads, Body 10.15x6.85mm, Pitch 2.54mm)
pins: 1 VOUT (in) "On the LTC1174-3.3 and LTC1174-5 this pin goes to an internal resistive divider which sets the output voltage.", 2 LBO (oc) "Open Drain of an N-Channel Pull-Down. This pin will sink current when Pin 3 (LBIN) goes below 1.25V. During shutdown the state of this pin is indeterminate.", 3 LBIN (in) "The ??Input of the Low-Battery Voltage Comparator. The ??input is connected to a reference voltage of 1.25V.", 4 GND (power) "Ground Pin.", 5 SW (power) "Drain of the P-Channel MOSFET Switch. Cathode of Schottky diode must be closely connected to this pin.", 6 VIN (power) "Input Supply Voltage. It must be decoupled close to ground Pin 4.", 7 IPGM (in) "Selects the Current Limit of the P-Channel Switch. With IPGM = VIN, the current trip point is 600mA and with IPGM = 0V, the current trip value is reduced to 340mA.", 8 ~{SHUTDOWN} (in) "Pulling this pin to ground keeps the internal switch off and puts the LTC1174 in micropower shutdown."

## LTC1174HVCS8
designator U?
High Efficiency Step-Down and Inverting DC/DC Converter, 8-pin SOIC (S8-8), 0 to 70 degC; Manufacturer: Linear Technology; PartNumber: LTC1174HVCS8; Number of Outputs: 1; PackageReference: S8-8; PackageDescription: 8-Pin Plastic Small Outline (Narrow .150 Inch), Body 4.9 x 3.9 mm, Pitch 1.27 mm; Supplier 1: Digi-Key; Supplier Part Number 1: LTC1174HVCS8-ND; RoHS: FALSE
footprint LT-S8-8_N (SOIC, 8-Leads, Body 5x4mm, Pitch 1.27mm, IPC Medium Density)
footprint LT-S8-8_L (SOIC, 8-Leads, Body 5x4mm, Pitch 1.27mm, IPC High Density)
footprint LT-S8-8_M (SOIC, 8-Leads, Body 5x4mm, Pitch 1.27mm, IPC Low Density)
pins: 1 VFB (in) "For the LTC1174, this pin connects to the main voltage comparator's input.", 2 LBO (oc) "Open Drain of an N-Channel Pull-Down. This pin will sink current when Pin 3 (LBIN) goes below 1.25V. During shutdown the state of this pin is indeterminate.", 3 LBIN (in) "The ??Input of the Low-Battery Voltage Comparator. The ??input is connected to a reference voltage of 1.25V.", 4 GND (power) "Ground Pin.", 5 SW (power) "Drain of the P-Channel MOSFET Switch. Cathode of Schottky diode must be closely connected to this pin.", 6 VIN (power) "Input Supply Voltage. It must be decoupled close to ground Pin 4.", 7 IPGM (in) "Selects the Current Limit of the P-Channel Switch. With IPGM = VIN, the current trip point is 600mA and with IPGM = 0V, the current trip value is reduced to 340mA.", 8 ~{SHUTDOWN} (in) "Pulling this pin to ground keeps the internal switch off and puts the LTC1174 in micropower shutdown."

## LTC1174HVCS8#PBF
designator U?
High Efficiency Step-Down and Inverting DC/DC Converter, 8-pin SOIC (S8-8), 0 to 70 degC, Pb-Free; Manufacturer: Linear Technology; PartNumber: LTC1174HVCS8#PBF; Number of Outputs: 1; PackageReference: S8-8; PackageDescription: 8-Pin Plastic Small Outline (Narrow .150 Inch), Body 4.9 x 3.9 mm, Pitch 1.27 mm; Supplier 1: Digi-Key; Supplier Part Number 1: LTC1174HVCS8#PBF-ND; RoHS: TRUE
footprint LT-S8-8_N (SOIC, 8-Leads, Body 5x4mm, Pitch 1.27mm, IPC Medium Density)
footprint LT-S8-8_L (SOIC, 8-Leads, Body 5x4mm, Pitch 1.27mm, IPC High Density)
footprint LT-S8-8_M (SOIC, 8-Leads, Body 5x4mm, Pitch 1.27mm, IPC Low Density)
pins: 1 VFB (in) "For the LTC1174, this pin connects to the main voltage comparator's input.", 2 LBO (oc) "Open Drain of an N-Channel Pull-Down. This pin will sink current when Pin 3 (LBIN) goes below 1.25V. During shutdown the state of this pin is indeterminate.", 3 LBIN (in) "The ??Input of the Low-Battery Voltage Comparator. The ??input is connected to a reference voltage of 1.25V.", 4 GND (power) "Ground Pin.", 5 SW (power) "Drain of the P-Channel MOSFET Switch. Cathode of Schottky diode must be closely connected to this pin.", 6 VIN (power) "Input Supply Voltage. It must be decoupled close to ground Pin 4.", 7 IPGM (in) "Selects the Current Limit of the P-Channel Switch. With IPGM = VIN, the current trip point is 600mA and with IPGM = 0V, the current trip value is reduced to 340mA.", 8 ~{SHUTDOWN} (in) "Pulling this pin to ground keeps the internal switch off and puts the LTC1174 in micropower shutdown."

## LTC1174HVCS8#TR
designator U?
High Efficiency Step-Down and Inverting DC/DC Converter, 8-pin SOIC (S8-8), 0 to 70 degC, Tape and Reel; Manufacturer: Linear Technology; PartNumber: LTC1174HVCS8#TR; Number of Outputs: 1; PackageReference: S8-8; PackageDescription: 8-Pin Plastic Small Outline (Narrow .150 Inch), Body 4.9 x 3.9 mm, Pitch 1.27 mm; Supplier 1: Digi-Key; Supplier Part Number 1: LTC1174HVCS8#TR-ND; RoHS: FALSE
footprint LT-S8-8_N (SOIC, 8-Leads, Body 5x4mm, Pitch 1.27mm, IPC Medium Density)
footprint LT-S8-8_L (SOIC, 8-Leads, Body 5x4mm, Pitch 1.27mm, IPC High Density)
footprint LT-S8-8_M (SOIC, 8-Leads, Body 5x4mm, Pitch 1.27mm, IPC Low Density)
pins: 1 VFB (in) "For the LTC1174, this pin connects to the main voltage comparator's input.", 2 LBO (oc) "Open Drain of an N-Channel Pull-Down. This pin will sink current when Pin 3 (LBIN) goes below 1.25V. During shutdown the state of this pin is indeterminate.", 3 LBIN (in) "The ??Input of the Low-Battery Voltage Comparator. The ??input is connected to a reference voltage of 1.25V.", 4 GND (power) "Ground Pin.", 5 SW (power) "Drain of the P-Channel MOSFET Switch. Cathode of Schottky diode must be closely connected to this pin.", 6 VIN (power) "Input Supply Voltage. It must be decoupled close to ground Pin 4.", 7 IPGM (in) "Selects the Current Limit of the P-Channel Switch. With IPGM = VIN, the current trip point is 600mA and with IPGM = 0V, the current trip value is reduced to 340mA.", 8 ~{SHUTDOWN} (in) "Pulling this pin to ground keeps the internal switch off and puts the LTC1174 in micropower shutdown."

## LTC1174HVCS8#TRPBF
designator U?
High Efficiency Step-Down and Inverting DC/DC Converter, 8-pin SOIC (S8-8), 0 to 70 degC, Pb-Free, Tape and Reel; Manufacturer: Linear Technology; PartNumber: LTC1174HVCS8#TRPBF; Number of Outputs: 1; PackageReference: S8-8; PackageDescription: 8-Pin Plastic Small Outline (Narrow .150 Inch), Body 4.9 x 3.9 mm, Pitch 1.27 mm; Supplier 1: Digi-Key; Supplier Part Number 1: LTC1174HVCS8#TRPBF-ND; RoHS: TRUE
footprint LT-S8-8_N (SOIC, 8-Leads, Body 5x4mm, Pitch 1.27mm, IPC Medium Density)
footprint LT-S8-8_L (SOIC, 8-Leads, Body 5x4mm, Pitch 1.27mm, IPC High Density)
footprint LT-S8-8_M (SOIC, 8-Leads, Body 5x4mm, Pitch 1.27mm, IPC Low Density)
pins: 1 VFB (in) "For the LTC1174, this pin connects to the main voltage comparator's input.", 2 LBO (oc) "Open Drain of an N-Channel Pull-Down. This pin will sink current when Pin 3 (LBIN) goes below 1.25V. During shutdown the state of this pin is indeterminate.", 3 LBIN (in) "The ??Input of the Low-Battery Voltage Comparator. The ??input is connected to a reference voltage of 1.25V.", 4 GND (power) "Ground Pin.", 5 SW (power) "Drain of the P-Channel MOSFET Switch. Cathode of Schottky diode must be closely connected to this pin.", 6 VIN (power) "Input Supply Voltage. It must be decoupled close to ground Pin 4.", 7 IPGM (in) "Selects the Current Limit of the P-Channel Switch. With IPGM = VIN, the current trip point is 600mA and with IPGM = 0V, the current trip value is reduced to 340mA.", 8 ~{SHUTDOWN} (in) "Pulling this pin to ground keeps the internal switch off and puts the LTC1174 in micropower shutdown."

## LTC1174HVCS8-3.3
designator U?
High Efficiency Step-Down and Inverting DC/DC Converter, 8-pin SOIC (S8-8), 0 to 70 degC; Manufacturer: Linear Technology; PartNumber: LTC1174HVCS8-3.3; Number of Outputs: 1; PackageReference: S8-8; PackageDescription: 8-Pin Plastic Small Outline (Narrow .150 Inch), Body 4.9 x 3.9 mm, Pitch 1.27 mm; Supplier 1: Digi-Key; Supplier Part Number 1: LTC1174HVCS8-3.3-ND; RoHS: FALSE
footprint LT-S8-8_N (SOIC, 8-Leads, Body 5x4mm, Pitch 1.27mm, IPC Medium Density)
footprint LT-S8-8_L (SOIC, 8-Leads, Body 5x4mm, Pitch 1.27mm, IPC High Density)
footprint LT-S8-8_M (SOIC, 8-Leads, Body 5x4mm, Pitch 1.27mm, IPC Low Density)
pins: 1 VOUT (in) "On the LTC1174-3.3 and LTC1174-5 this pin goes to an internal resistive divider which sets the output voltage.", 2 LBO (oc) "Open Drain of an N-Channel Pull-Down. This pin will sink current when Pin 3 (LBIN) goes below 1.25V. During shutdown the state of this pin is indeterminate.", 3 LBIN (in) "The ??Input of the Low-Battery Voltage Comparator. The ??input is connected to a reference voltage of 1.25V.", 4 GND (power) "Ground Pin.", 5 SW (power) "Drain of the P-Channel MOSFET Switch. Cathode of Schottky diode must be closely connected to this pin.", 6 VIN (power) "Input Supply Voltage. It must be decoupled close to ground Pin 4.", 7 IPGM (in) "Selects the Current Limit of the P-Channel Switch. With IPGM = VIN, the current trip point is 600mA and with IPGM = 0V, the current trip value is reduced to 340mA.", 8 ~{SHUTDOWN} (in) "Pulling this pin to ground keeps the internal switch off and puts the LTC1174 in micropower shutdown."

## LTC1174HVCS8-3.3#PBF
designator U?
High Efficiency Step-Down and Inverting DC/DC Converter, 8-pin SOIC (S8-8), 0 to 70 degC, Pb-Free; Manufacturer: Linear Technology; PartNumber: LTC1174HVCS8-3.3#PBF; Number of Outputs: 1; PackageReference: S8-8; PackageDescription: 8-Pin Plastic Small Outline (Narrow .150 Inch), Body 4.9 x 3.9 mm, Pitch 1.27 mm; Supplier 1: Digi-Key; Supplier Part Number 1: LTC1174HVCS8-3.3#PBF-ND; RoHS: TRUE
footprint LT-S8-8_N (SOIC, 8-Leads, Body 5x4mm, Pitch 1.27mm, IPC Medium Density)
footprint LT-S8-8_L (SOIC, 8-Leads, Body 5x4mm, Pitch 1.27mm, IPC High Density)
footprint LT-S8-8_M (SOIC, 8-Leads, Body 5x4mm, Pitch 1.27mm, IPC Low Density)
pins: 1 VOUT (in) "On the LTC1174-3.3 and LTC1174-5 this pin goes to an internal resistive divider which sets the output voltage.", 2 LBO (oc) "Open Drain of an N-Channel Pull-Down. This pin will sink current when Pin 3 (LBIN) goes below 1.25V. During shutdown the state of this pin is indeterminate.", 3 LBIN (in) "The ??Input of the Low-Battery Voltage Comparator. The ??input is connected to a reference voltage of 1.25V.", 4 GND (power) "Ground Pin.", 5 SW (power) "Drain of the P-Channel MOSFET Switch. Cathode of Schottky diode must be closely connected to this pin.", 6 VIN (power) "Input Supply Voltage. It must be decoupled close to ground Pin 4.", 7 IPGM (in) "Selects the Current Limit of the P-Channel Switch. With IPGM = VIN, the current trip point is 600mA and with IPGM = 0V, the current trip value is reduced to 340mA.", 8 ~{SHUTDOWN} (in) "Pulling this pin to ground keeps the internal switch off and puts the LTC1174 in micropower shutdown."

## LTC1174HVCS8-3.3#TR
designator U?
High Efficiency Step-Down and Inverting DC/DC Converter, 8-pin SOIC (S8-8), 0 to 70 degC, Tape and Reel; Manufacturer: Linear Technology; PartNumber: LTC1174HVCS8-3.3#TR; Number of Outputs: 1; PackageReference: S8-8; PackageDescription: 8-Pin Plastic Small Outline (Narrow .150 Inch), Body 4.9 x 3.9 mm, Pitch 1.27 mm; Supplier 1: Digi-Key; Supplier Part Number 1: LTC1174HVCS83.3TR-ND; RoHS: FALSE
footprint LT-S8-8_N (SOIC, 8-Leads, Body 5x4mm, Pitch 1.27mm, IPC Medium Density)
footprint LT-S8-8_L (SOIC, 8-Leads, Body 5x4mm, Pitch 1.27mm, IPC High Density)
footprint LT-S8-8_M (SOIC, 8-Leads, Body 5x4mm, Pitch 1.27mm, IPC Low Density)
pins: 1 VOUT (in) "On the LTC1174-3.3 and LTC1174-5 this pin goes to an internal resistive divider which sets the output voltage.", 2 LBO (oc) "Open Drain of an N-Channel Pull-Down. This pin will sink current when Pin 3 (LBIN) goes below 1.25V. During shutdown the state of this pin is indeterminate.", 3 LBIN (in) "The ??Input of the Low-Battery Voltage Comparator. The ??input is connected to a reference voltage of 1.25V.", 4 GND (power) "Ground Pin.", 5 SW (power) "Drain of the P-Channel MOSFET Switch. Cathode of Schottky diode must be closely connected to this pin.", 6 VIN (power) "Input Supply Voltage. It must be decoupled close to ground Pin 4.", 7 IPGM (in) "Selects the Current Limit of the P-Channel Switch. With IPGM = VIN, the current trip point is 600mA and with IPGM = 0V, the current trip value is reduced to 340mA.", 8 ~{SHUTDOWN} (in) "Pulling this pin to ground keeps the internal switch off and puts the LTC1174 in micropower shutdown."